# Altium footprint library DrvBoard-old.PcbLib: 22 footprints (part 1 of 2)
Each footprint in its own frame and in the unit in brackets; x right, y up, seen from the top. Pads: shape width x height; smd on the part's side, far side on the other; paste and mask are expansions set on the pad; w line width, h text height; cw(c..) or ccw(c..) is an arc to the next point about the centre after c.
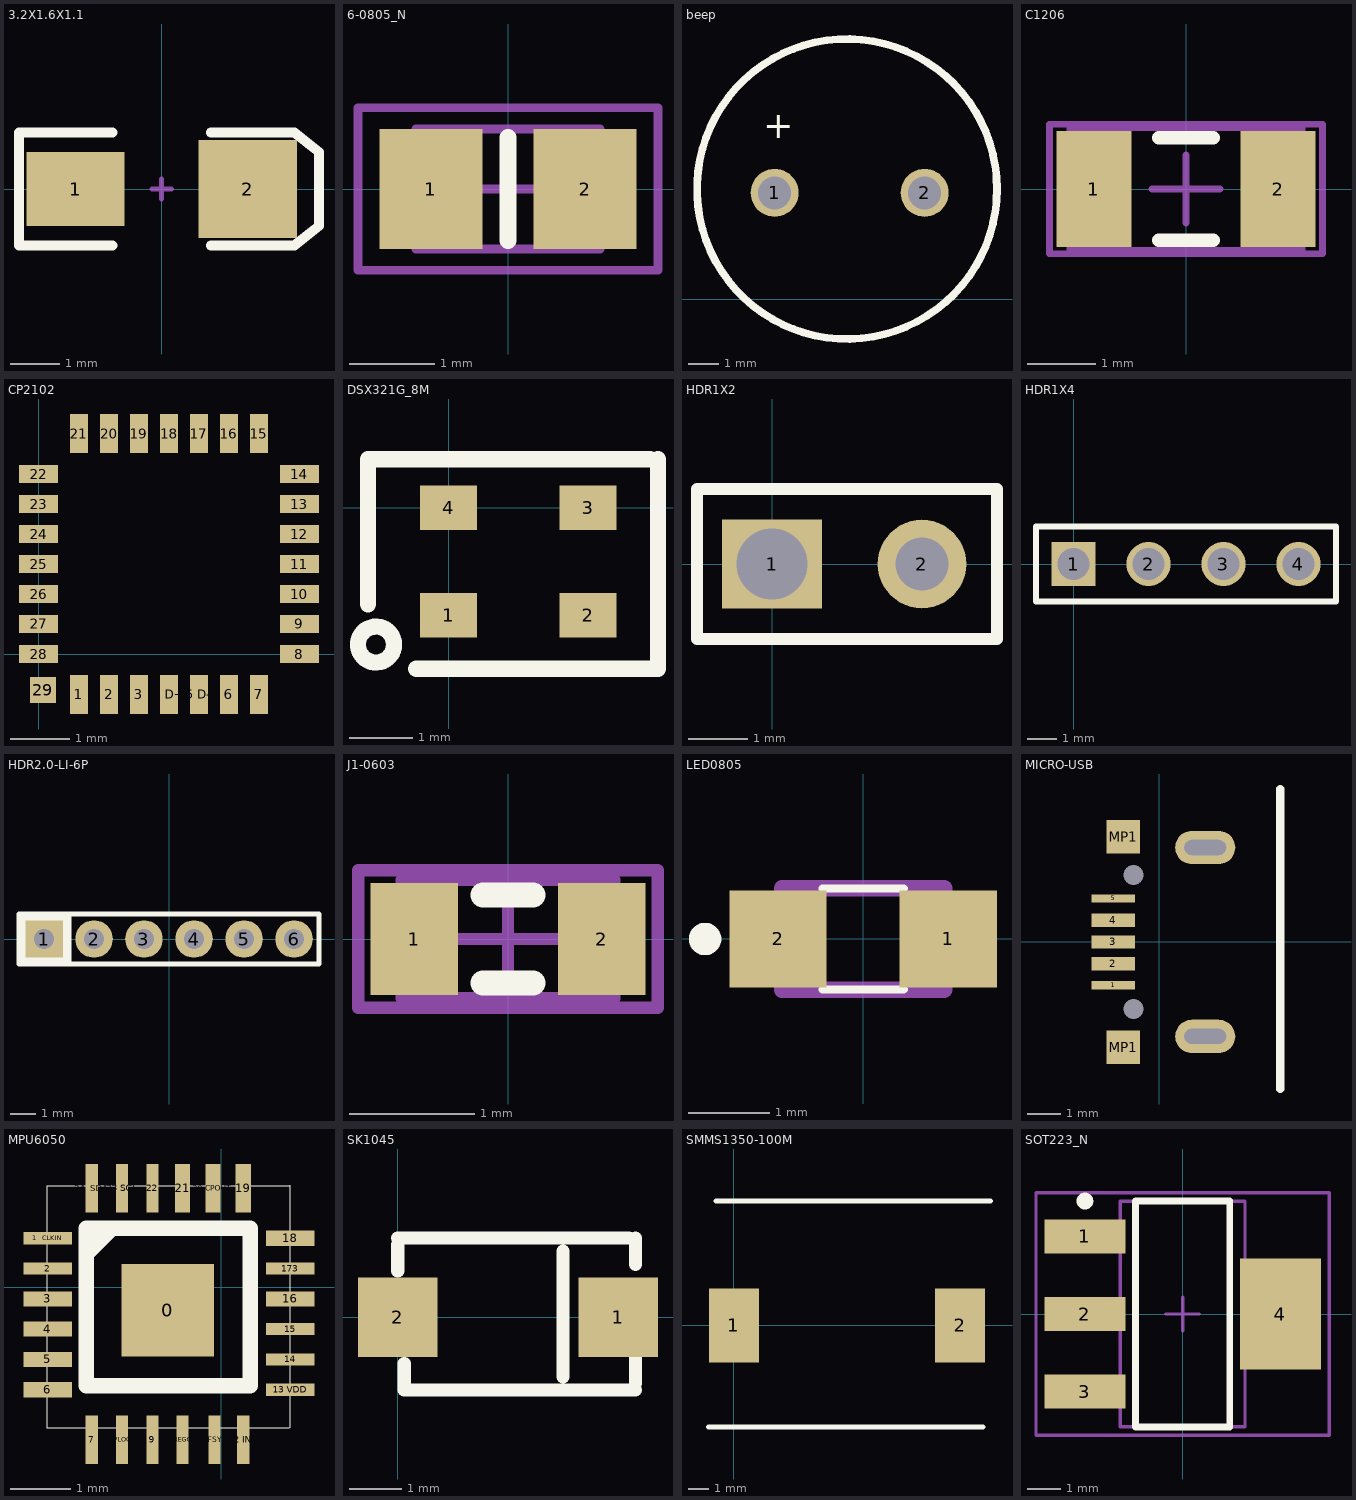
[diagram p0: the footprints below, top view; thin cyan lines are the x and y axes]

## 3.2X1.6X1.1 [mm] "DO_241AC"
height 1.2
pads (2):
  rect 2x1.5 smd: 1(-1.75,0)
  rect 2x2 smd: 2(1.75,0)
Top Overlay:
  lines w0.2: -1,-1.15 -2.9,-1.15 -2.9,1.15 -1,1.15 ; 1,-1.15 2.7,-1.15 3.2,-0.75 3.2,0.75 2.7,1.15 1,1.15
Mechanical 1:
  lines w0.1: -0.2,0 0.2,0 ; 0,-0.2 0,0.2

## 6-0805_N [mm] "Chip Resistor, Body 2.0x1.2mm, IPC Medium Density"
height 0.7
pads (2):
  rect 1.2x1.4 smd: 1(-0.9,0) 2(0.9,0)
Top Overlay:
  lines w0.2: 0,-0.6 0,0.6
Mechanical 13:
  lines w0.1: -1.075,-0.7 1.075,-0.7 1.075,0.7 -1.075,0.7 -1.075,-0.7
Mechanical 15:
  lines w0.1: -0.5,0 0.5,0 ; 0,-0.5 0,0.5 ; -1.75,-0.95 1.75,-0.95 1.75,0.95 -1.75,0.95 -1.75,-0.95
3D body: height 0.7, standoff 0, extent -1.075,-0.7 1.075,0.7

## beep [mm] "3mm"
pads (2):
  round 1.6 hole 1.1: 1(24.765,3.556) 2(29.765,3.556)
Top Overlay:
  circle w0.254: c27.178,3.683 r5
  text "+" at 24.384,5.08 h1.52

## C1206 [mm] "Chip Capacitor, Body 3.2x1.6mm, IPC High Density"
height 1.3
pads (2):
  rect 1.1x1.7 smd: 1(-1.35,0) 2(1.35,0)
Top Overlay:
  lines w0.2: -0.4,-0.75 0.4,-0.75 ; -0.4,0.75 0.4,0.75
Mechanical 13:
  lines w0.1: -1.7,-0.9 -1.7,0.9 1.7,0.9 1.7,-0.9 -1.7,-0.9
Mechanical 15:
  lines w0.1: -0.5,0 0.5,0 ; 0,-0.5 0,0.5 ; -2,-0.95 -2,0.95 2,0.95 2,-0.95 -2,-0.95
3D body: height 1.3, standoff 0, extent -1.7,-0.9 1.7,0.9

## CP2102 [mm] "QFN-28"
pads (29):
  rect 0.3x0.65 smd: 1(0.675,-0.675) 2(1.175,-0.675) 3(1.675,-0.675) "4 D+"(2.175,-0.675) "5 D-"(2.675,-0.675) 6(3.175,-0.675) 7(3.675,-0.675) 15(3.675,3.675) 16(3.175,3.675) 17(2.675,3.675) 18(2.175,3.675) 19(1.675,3.675) 20(1.175,3.675) 21(0.675,3.675)
  rect 0.65x0.3 smd: 8(4.35,0) 9(4.35,0.5) 10(4.35,1) 11(4.35,1.5) 12(4.35,2) 13(4.35,2.5) 14(4.35,3) 22(0,3) 23(0,2.5) 24(0,2) 25(0,1.5) 26(0,1) 27(0,0.5) 28(0,0)
  rect 0.435x0.435 smd: 29(0.072,-0.602)

## DSX321G_8M [mm] "8M"
pads (4):
  rect 0.9x0.7 smd: 1(0,-1.7) 2(2.2,-1.7) 3(2.2,0) 4(0,0)
Top Overlay:
  circle w0.254: c-1.143,-2.159 r0.284
  lines w0.254: -1.27,-1.524 -1.27,0.762 3.175,0.762 ; -0.508,-2.54 3.302,-2.54 3.302,0.762

## HDR1X2 [mm] "XH2_54"
height 1.2
pads (2):
  rect 1.7x1.5 hole 1.2: 1(0,0)
  round 1.5 hole 0.9: 2(2.54,0)
Top Overlay:
  lines w0.2: -1.27,-1.27 -1.27,1.27 3.81,1.27 3.81,-1.27 -1.27,-1.27

## HDR1X4 [mm] "Connector; Header; 4 Position"
height 1.1
pads (4):
  rect 1.5x1.5 hole 1.1: 1(0,0)
  round 1.5 hole 1.1: 2(2.54,0) 3(5.08,0) 4(7.62,0)
Top Overlay:
  lines w0.2: -1.27,-1.27 8.89,-1.27 8.89,1.27 -1.27,1.27 -1.27,-1.27

## HDR2.0-LI-6P [mm] "ֱ�壬�žࣺ2.0mm ��װ�������Ա���� ID���ƾ���ʯ"
pads (6):
  rect 1.5x1.5 hole 0.8: 1(-5,0)
  round 1.5 hole 0.8: 2(-3,0) 3(-1,0) 4(1,0) 5(3,0) 6(5,0)
Top Overlay:
  rectangle: -6,-1 -4,1
  lines w0.2: -4,-1 -4,1 ; -6,-1 6,-1 6,1 -6,1 -6,-1
3D body "HDR2.0-LI-6P.STEP": height 6.5, standoff -2.8, extent -6,-1 6,1

## J1-0603 [mm] "Chip Resistor, Body 1.6x0.8mm, IPC High Density"
height 0.9
pads (2):
  rect 0.7x0.9 smd: 1(-0.75,0) 2(0.75,0)
Top Overlay:
  lines w0.2: -0.2,-0.35 0.2,-0.35 ; -0.2,0.35 0.2,0.35
Mechanical 13:
  lines w0.1: -0.85,-0.475 -0.85,0.475 0.85,0.475 0.85,-0.475 -0.85,-0.475
Mechanical 15:
  lines w0.1: -0.475,0 0.475,0 ; 0,-0.475 0,0.475 ; -1.2,-0.55 -1.2,0.55 1.2,0.55 1.2,-0.55 -1.2,-0.55
3D body: height 0.9, standoff 0, extent -0.85,-0.475 0.85,0.475

## LED0805 [mm]
pads (2):
  rect 1.2x1.2 smd: 1(1.05,0) 2(-1.05,0)
Top Overlay:
  lines w0.1: -0.5,-0.625 0.5,-0.625 ; -0.5,0.625 0.5,0.625
  lines w0.2: -1.95,-0.1 cw(c-1.95,0) -1.95,0.1 cw(c-1.95,0) -1.95,-0.1
Mechanical 13:
  lines w0.2: -1,-0.625 -1,0.625 1,0.625 1,-0.625 -1,-0.625

## MICRO-USB [mm]
height 1.4
pads (11):
  rect 1.3x0.25 smd: 1(-1.375,-1.3) 5(-1.375,1.3)
  rect 1.3x0.4 smd: 2(-1.375,-0.65) 3(-1.375,0) 4(-1.375,0.65)
  rect 1x1 smd: MP1(-1.075,-3.15) MP1(-1.075,3.15)
  round 0 hole 0.6: ""(-0.775,-2) ""(-0.775,2)
  oval 1.8x1 hole 0.45 slot 1.25 at 0 deg: ""(1.375,-2.825) ""(1.375,2.825)
Top Overlay:
  lines w0.254: 3.625,-4.4 3.625,4.576

## MPU6050 [mm]
pads (25):
  rect 1.524x1.524 smd: 0(-0.889,-0.381)
  rect 0.8x0.2 smd: "1   CLKIN"(-2.866,0.809) 2(-2.866,0.309) "13 VDD"(1.134,-1.691) 14(1.134,-1.191) 15(1.134,-0.691) 173(1.134,0.309)
  rect 0.8x0.25 smd: 3(-2.866,-0.191) 4(-2.866,-0.691) 5(-2.866,-1.191) 6(-2.866,-1.691) 16(1.134,-0.191) 18(1.134,0.809)
  rect 0.2x0.8 smd: 7(-2.141,-2.516) 9(-1.141,-2.516) "10 REGOUT"(-0.641,-2.516) "11 FSYNC"(-0.116,-2.516) "12 INT"(0.359,-2.516) 22(-1.141,1.634) "23 SCL"(-1.641,1.634) "24  SDA"(-2.141,1.634) " 8 VLOGIC"(-1.641,-2.516)
  rect 0.25x0.8 smd: 19(0.359,1.634) "20 CPOUT"(-0.141,1.634) 21(-0.641,1.634)
Top Overlay:
  lines w0.01: -2.878,-2.324 -2.878,1.676 1.134,1.676 ; -2.878,-2.316 1.122,-2.316 ; 1.134,-2.316 1.134,1.684
  lines w0.254: -2.18,0.596 -1.862,0.914 ; -2.228,-1.624 0.472,-1.624 0.472,0.976 -2.228,0.976 -2.228,-1.624

## SK1045 [mil] "DO214"
pads (2):
  rect 60x60 smd: 1(166.93,0) 2(0,0)
Top Overlay:
  lines w10: 0,35 0,55 ; 0,60 175,60 ; 5,-35 5,-55 180,-55 ; 125,-45 125,50 ; 180,-50 180,-30 ; 180,40 180,60

## SMMS1350-100M [mm] "HC1206"
pads (2):
  rect 2.5x3.7 smd: 1(0,0) 2(11.3,0)
Top Overlay:
  lines w0.254: -1.27,-5.08 12.446,-5.08 ; -0.889,6.223 12.827,6.223

## SOT223_N [mm] "SOT223, 4-Leads, Body 6.5x3.5mm, Pitch 2.3mm, Lead Span 7mm, IPC Medium Density"
height 1.7
pads (4):
  rect 2.4x1 smd: 1(-2.9,2.3) 2(-2.9,0) 3(-2.9,-2.3)
  rect 2.4x3.3 smd: 4(2.9,0)
Top Overlay:
  circle w0.25: c-2.9,3.35 r0.125
  lines w0.2: -1.4,-3.35 1.4,-3.35 1.4,3.35 -1.4,3.35 -1.4,-3.35
Mechanical 13:
  lines w0.1: -1.85,-3.35 1.85,-3.35 1.85,3.35 -1.85,3.35 -1.85,-3.35
Mechanical 15:
  lines w0.1: -0.5,0 0.5,0 ; 0,-0.5 0,0.5 ; -4.35,-3.6 4.35,-3.6 4.35,3.6 -4.35,3.6 -4.35,-3.6
3D body: height 1.7, standoff 0, extent -1.85,-3.35 1.85,3.35